# EAGLE library part AD8340 (library Lasser)
Analog Devices AD8340 700-1000MHz Vector Modulator Cartesian amplitude and phase modulation with continous controlable phase of 0° - 360° and amplitude of -2 to -32dB.
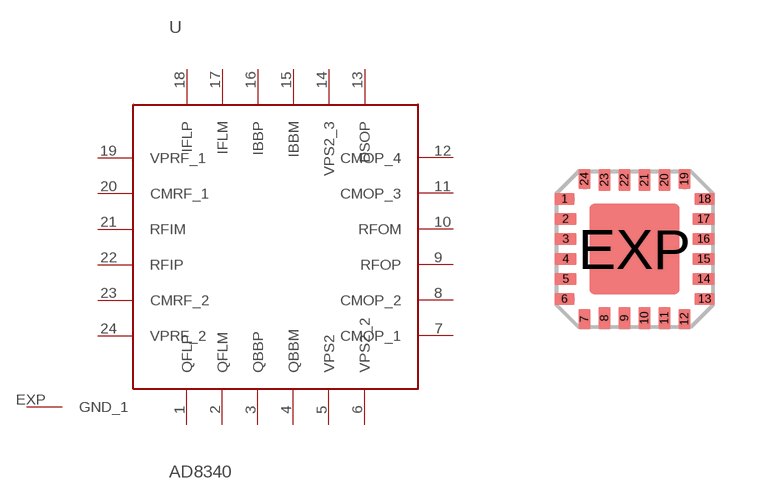
[diagram p5: symbol with the pads of LFCSP24; footprint LFCSP24]

Designator prefix -

## AD8340  [LFCSP24]
1  QFLP
2  QFLM
3  QBBP
4  QBBM
5  VPS2  pwr
6  VPS2_2  pwr
7  CMOP_1
8  CMOP_2
9  RFOP  out
10  RFOM  out
11  CMOP_3
12  CMOP_4
13  DSOP
14  VPS2_3  pwr
15  IBBM
16  IBBP
17  IFLM
18  IFLP
19  VPRF_1
20  CMRF_1
21  RFIM  in
22  RFIP  in
23  CMRF_2
24  VPRF_2
EXP  GND_1  out

## Footprint LFCSP24 (pad centres in mm)
24-Lead Lead Frame Chip Scale Package 4 mm × 4 mm (CP-24) Source: www.analog.com .. 3832984220209AD8133_0.pdf
smd 0.5 x 0.3: 1 -1.75,1.25; 6 -1.75,-1.25; 13 1.75,-1.25; 18 1.75,1.25
smd 0.55 x 0.3: 2 -1.725,0.75; 3 -1.725,0.25; 4 -1.725,-0.25; 5 -1.725,-0.75; 14 1.725,-0.75; 15 1.725,-0.25; 16 1.725,0.25; 17 1.725,0.75
smd 0.3 x 0.5: 7 -1.25,-1.75; 12 1.25,-1.75; 19 1.25,1.75; 24 -1.25,1.75
smd 0.3 x 0.55: 8 -0.75,-1.725; 9 -0.25,-1.725; 10 0.25,-1.725; 11 0.75,-1.725; 20 0.75,1.725; 21 0.25,1.725; 22 -0.25,1.725; 23 -0.75,1.725
smd 2.25 x 2.25: EXP 0,0